# Altium integrated library Maxim Power and Battery Management.IntLib: 645 symbols (part 2 of 15)
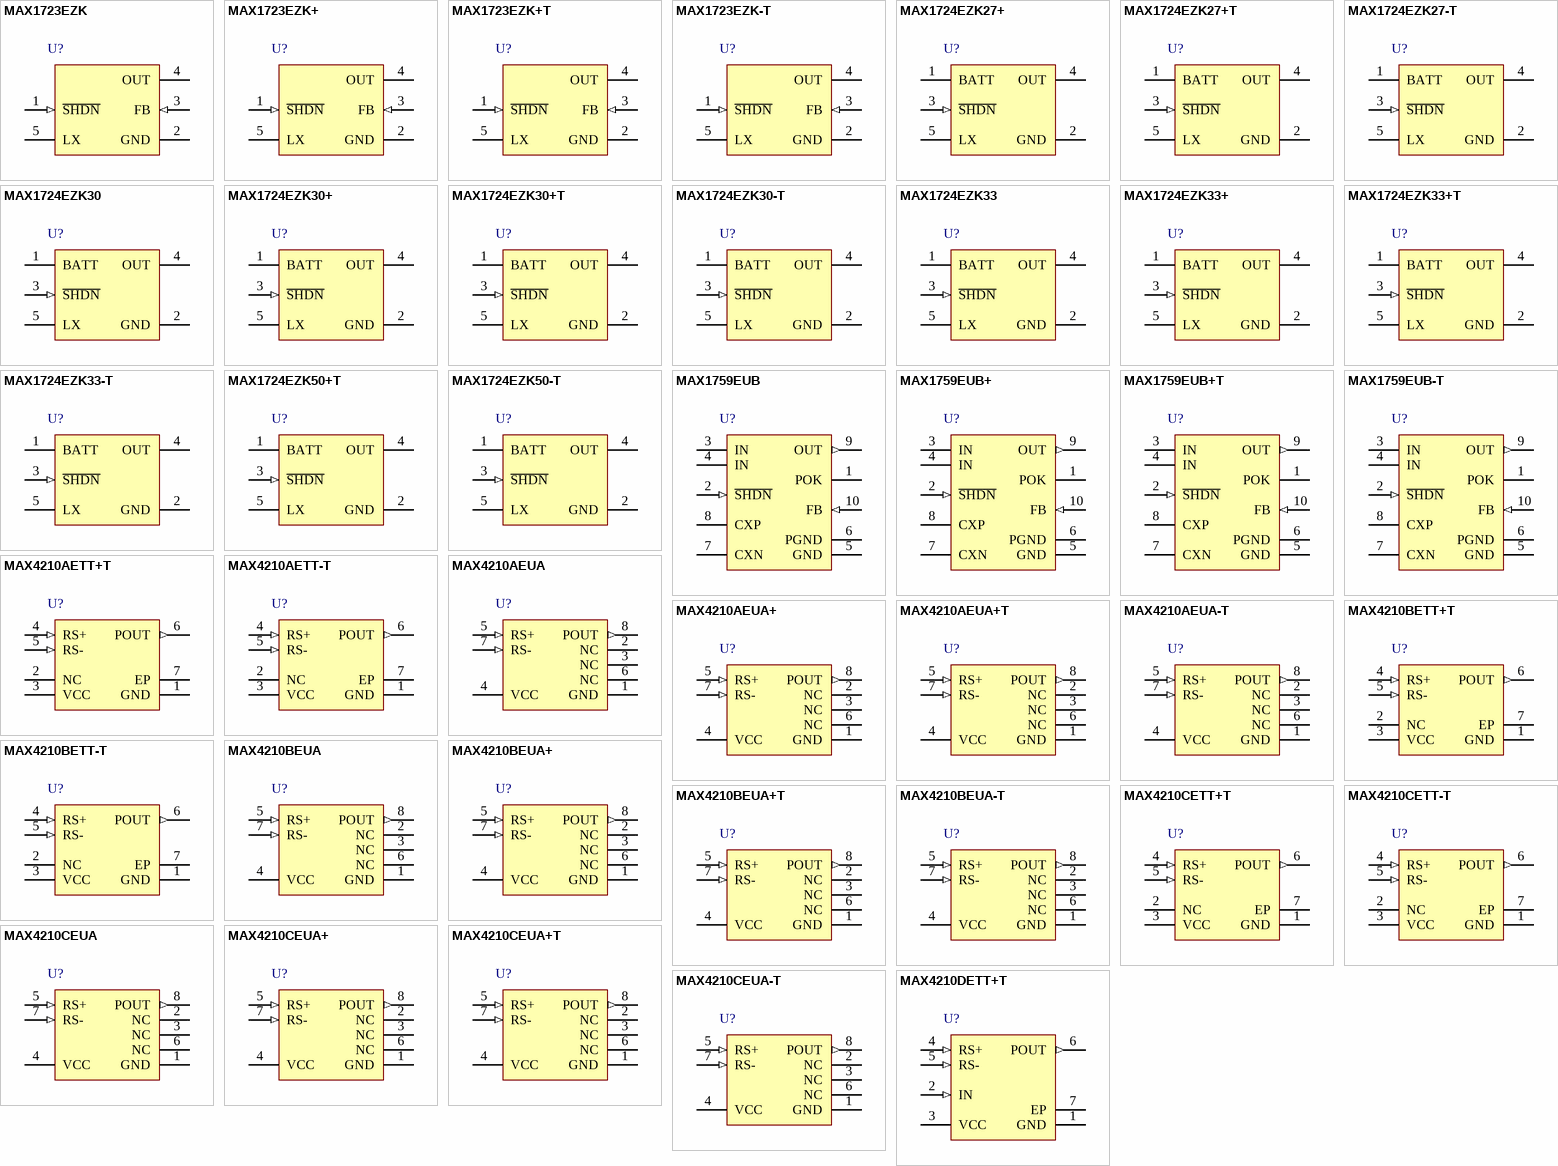
[diagram p20: symbols MAX1723EZK to MAX4210DETT+T]

## MAX1724EZK30+
designator U?
1.5uA IQ, Step-Up DC-DC Converter, 3V output, SHDN, LX damping, 5-Pin SOT, -40°C to +85°C, Pb-Free; DatasheetVersion: Rev 0, Jul-2001; PackageVersion: revD, 2010; PackageReference: Z5+1; PackageDescription: 5-Pin Thin Small-Outline Transistor, 2.9 x 1.6 mm Body, 0.95 mm Pitch, 2.8 mm Lead Span, SOT-23, Pb-Free; Code_JEITA: SC-74; Code_JEDEC: MO-193*; ComponentLink1Description: Manufacturer URL; ComponentLink1URL: http://www.maxim-ic.com; ComponentLink2Description: Datasheet; ComponentLink2URL: http://datasheets.maxim-ic.com/en/ds/MAX1722-MAX1724.pdf; ComponentLink3Description: Package Specification; ComponentLink3URL: http://pdfserv.maxim-ic.com/package_dwgs/21-0113.PDF
footprint Z5+1_N (SOT23, 5-Leads, Body 2.9x1.6mm, Pitch 0.95mm, Lead Span 2.8mm, IPC Medium Density)
footprint Z5+1_L (SOT23, 5-Leads, Body 2.9x1.6mm, Pitch 0.95mm, Lead Span 2.8mm, IPC High Density)
footprint Z5+1_M (SOT23, 5-Leads, Body 2.9x1.6mm, Pitch 0.95mm, Lead Span 2.8mm, IPC Low Density)
pins: 1 BATT (power), 2 GND (power), 3 ~{SHDN} (in), 4 OUT (power), 5 LX

## MAX1724EZK30+T
designator U?
1.5uA IQ, Step-Up DC-DC Converter, 3V output, SHDN, LX damping, 5-Pin SOT, -40°C to +85°C, Pb-Free, Tape and Reel; DatasheetVersion: Rev 0, Jul-2001; PackageVersion: revD, 2010; PackageReference: Z5+1; PackageDescription: 5-Pin Thin Small-Outline Transistor, 2.9 x 1.6 mm Body, 0.95 mm Pitch, 2.8 mm Lead Span, SOT-23, Pb-Free; Code_JEITA: SC-74; Code_JEDEC: MO-193*; ComponentLink1Description: Manufacturer URL; ComponentLink1URL: http://www.maxim-ic.com; ComponentLink2Description: Datasheet; ComponentLink2URL: http://datasheets.maxim-ic.com/en/ds/MAX1722-MAX1724.pdf; ComponentLink3Description: Package Specification; ComponentLink3URL: http://pdfserv.maxim-ic.com/package_dwgs/21-0113.PDF
footprint Z5+1_N (SOT23, 5-Leads, Body 2.9x1.6mm, Pitch 0.95mm, Lead Span 2.8mm, IPC Medium Density)
footprint Z5+1_L (SOT23, 5-Leads, Body 2.9x1.6mm, Pitch 0.95mm, Lead Span 2.8mm, IPC High Density)
footprint Z5+1_M (SOT23, 5-Leads, Body 2.9x1.6mm, Pitch 0.95mm, Lead Span 2.8mm, IPC Low Density)
pins: 1 BATT (power), 2 GND (power), 3 ~{SHDN} (in), 4 OUT (power), 5 LX

## MAX1724EZK30-T
designator U?
1.5uA IQ, Step-Up DC-DC Converter, 3V output, SHDN, LX damping, 5-Pin SOT, -40°C to +85°C, Tape and Reel; DatasheetVersion: Rev 0, Jul-2001; PackageVersion: revD, 2010; PackageReference: Z5-1; PackageDescription: 5-Pin Thin Small-Outline Transistor, 2.9 x 1.6 mm Body, 0.95 mm Pitch, 2.8 mm Lead Span, SOT-23; Code_JEITA: SC-74; Code_JEDEC: MO-193*; ComponentLink1Description: Manufacturer URL; ComponentLink1URL: http://www.maxim-ic.com; ComponentLink2Description: Datasheet; ComponentLink2URL: http://datasheets.maxim-ic.com/en/ds/MAX1722-MAX1724.pdf; ComponentLink3Description: Package Specification; ComponentLink3URL: http://pdfserv.maxim-ic.com/package_dwgs/21-0113.PDF
footprint Z5-1_N (SOT23, 5-Leads, Body 2.9x1.6mm, Pitch 0.95mm, Lead Span 2.8mm, IPC Medium Density)
footprint Z5-1_L (SOT23, 5-Leads, Body 2.9x1.6mm, Pitch 0.95mm, Lead Span 2.8mm, IPC High Density)
footprint Z5-1_M (SOT23, 5-Leads, Body 2.9x1.6mm, Pitch 0.95mm, Lead Span 2.8mm, IPC Low Density)
pins: 1 BATT (power), 2 GND (power), 3 ~{SHDN} (in), 4 OUT (power), 5 LX

## MAX1724EZK33
designator U?
1.5uA IQ, Step-Up DC-DC Converter, 3.3V output, SHDN, LX damping, 5-Pin SOT, -40°C to +85°C; DatasheetVersion: Rev 0, Jul-2001; PackageVersion: revD, 2010; PackageReference: Z5-1; PackageDescription: 5-Pin Thin Small-Outline Transistor, 2.9 x 1.6 mm Body, 0.95 mm Pitch, 2.8 mm Lead Span, SOT-23; Code_JEITA: SC-74; Code_JEDEC: MO-193*; ComponentLink1Description: Manufacturer URL; ComponentLink1URL: http://www.maxim-ic.com; ComponentLink2Description: Datasheet; ComponentLink2URL: http://datasheets.maxim-ic.com/en/ds/MAX1722-MAX1724.pdf; ComponentLink3Description: Package Specification; ComponentLink3URL: http://pdfserv.maxim-ic.com/package_dwgs/21-0113.PDF
footprint Z5-1_N (SOT23, 5-Leads, Body 2.9x1.6mm, Pitch 0.95mm, Lead Span 2.8mm, IPC Medium Density)
footprint Z5-1_L (SOT23, 5-Leads, Body 2.9x1.6mm, Pitch 0.95mm, Lead Span 2.8mm, IPC High Density)
footprint Z5-1_M (SOT23, 5-Leads, Body 2.9x1.6mm, Pitch 0.95mm, Lead Span 2.8mm, IPC Low Density)
pins: 1 BATT (power), 2 GND (power), 3 ~{SHDN} (in), 4 OUT (power), 5 LX

## MAX1724EZK33+
designator U?
1.5uA IQ, Step-Up DC-DC Converter, 3.3V output, SHDN, LX damping, 5-Pin SOT, -40°C to +85°C, Pb-Free; DatasheetVersion: Rev 0, Jul-2001; PackageVersion: revD, 2010; PackageReference: Z5+1; PackageDescription: 5-Pin Thin Small-Outline Transistor, 2.9 x 1.6 mm Body, 0.95 mm Pitch, 2.8 mm Lead Span, SOT-23, Pb-Free; Code_JEITA: SC-74; Code_JEDEC: MO-193*; ComponentLink1Description: Manufacturer URL; ComponentLink1URL: http://www.maxim-ic.com; ComponentLink2Description: Datasheet; ComponentLink2URL: http://datasheets.maxim-ic.com/en/ds/MAX1722-MAX1724.pdf; ComponentLink3Description: Package Specification; ComponentLink3URL: http://pdfserv.maxim-ic.com/package_dwgs/21-0113.PDF
footprint Z5+1_N (SOT23, 5-Leads, Body 2.9x1.6mm, Pitch 0.95mm, Lead Span 2.8mm, IPC Medium Density)
footprint Z5+1_L (SOT23, 5-Leads, Body 2.9x1.6mm, Pitch 0.95mm, Lead Span 2.8mm, IPC High Density)
footprint Z5+1_M (SOT23, 5-Leads, Body 2.9x1.6mm, Pitch 0.95mm, Lead Span 2.8mm, IPC Low Density)
pins: 1 BATT (power), 2 GND (power), 3 ~{SHDN} (in), 4 OUT (power), 5 LX

## MAX1724EZK33+T
designator U?
1.5uA IQ, Step-Up DC-DC Converter, 3.3V output, SHDN, LX damping, 5-Pin SOT, -40°C to +85°C, Pb-Free, Tape and Reel; DatasheetVersion: Rev 0, Jul-2001; PackageVersion: revD, 2010; PackageReference: Z5+1; PackageDescription: 5-Pin Thin Small-Outline Transistor, 2.9 x 1.6 mm Body, 0.95 mm Pitch, 2.8 mm Lead Span, SOT-23, Pb-Free; Code_JEITA: SC-74; Code_JEDEC: MO-193*; ComponentLink1Description: Manufacturer URL; ComponentLink1URL: http://www.maxim-ic.com; ComponentLink2Description: Datasheet; ComponentLink2URL: http://datasheets.maxim-ic.com/en/ds/MAX1722-MAX1724.pdf; ComponentLink3Description: Package Specification; ComponentLink3URL: http://pdfserv.maxim-ic.com/package_dwgs/21-0113.PDF
footprint Z5+1_N (SOT23, 5-Leads, Body 2.9x1.6mm, Pitch 0.95mm, Lead Span 2.8mm, IPC Medium Density)
footprint Z5+1_L (SOT23, 5-Leads, Body 2.9x1.6mm, Pitch 0.95mm, Lead Span 2.8mm, IPC High Density)
footprint Z5+1_M (SOT23, 5-Leads, Body 2.9x1.6mm, Pitch 0.95mm, Lead Span 2.8mm, IPC Low Density)
pins: 1 BATT (power), 2 GND (power), 3 ~{SHDN} (in), 4 OUT (power), 5 LX

## MAX1724EZK33-T
designator U?
1.5uA IQ, Step-Up DC-DC Converter, 3.3V output, SHDN, LX damping, 5-Pin SOT, -40°C to +85°C, Tape and Reel; DatasheetVersion: Rev 0, Jul-2001; PackageVersion: revD, 2010; PackageReference: Z5-1; PackageDescription: 5-Pin Thin Small-Outline Transistor, 2.9 x 1.6 mm Body, 0.95 mm Pitch, 2.8 mm Lead Span, SOT-23; Code_JEITA: SC-74; Code_JEDEC: MO-193*; ComponentLink1Description: Manufacturer URL; ComponentLink1URL: http://www.maxim-ic.com; ComponentLink2Description: Datasheet; ComponentLink2URL: http://datasheets.maxim-ic.com/en/ds/MAX1722-MAX1724.pdf; ComponentLink3Description: Package Specification; ComponentLink3URL: http://pdfserv.maxim-ic.com/package_dwgs/21-0113.PDF
footprint Z5-1_N (SOT23, 5-Leads, Body 2.9x1.6mm, Pitch 0.95mm, Lead Span 2.8mm, IPC Medium Density)
footprint Z5-1_L (SOT23, 5-Leads, Body 2.9x1.6mm, Pitch 0.95mm, Lead Span 2.8mm, IPC High Density)
footprint Z5-1_M (SOT23, 5-Leads, Body 2.9x1.6mm, Pitch 0.95mm, Lead Span 2.8mm, IPC Low Density)
pins: 1 BATT (power), 2 GND (power), 3 ~{SHDN} (in), 4 OUT (power), 5 LX

## MAX1724EZK50+T
designator U?
1.5uA IQ, Step-Up DC-DC Converter, 5V output, SHDN, LX damping, 5-Pin SOT, -40°C to +85°C, Pb-Free, Tape and Reel; DatasheetVersion: Rev 0, Jul-2001; PackageVersion: revD, 2010; PackageReference: Z5+1; PackageDescription: 5-Pin Thin Small-Outline Transistor, 2.9 x 1.6 mm Body, 0.95 mm Pitch, 2.8 mm Lead Span, SOT-23, Pb-Free; Code_JEITA: SC-74; Code_JEDEC: MO-193*; ComponentLink1Description: Manufacturer URL; ComponentLink1URL: http://www.maxim-ic.com; ComponentLink2Description: Datasheet; ComponentLink2URL: http://datasheets.maxim-ic.com/en/ds/MAX1722-MAX1724.pdf; ComponentLink3Description: Package Specification; ComponentLink3URL: http://pdfserv.maxim-ic.com/package_dwgs/21-0113.PDF
footprint Z5+1_N (SOT23, 5-Leads, Body 2.9x1.6mm, Pitch 0.95mm, Lead Span 2.8mm, IPC Medium Density)
footprint Z5+1_L (SOT23, 5-Leads, Body 2.9x1.6mm, Pitch 0.95mm, Lead Span 2.8mm, IPC High Density)
footprint Z5+1_M (SOT23, 5-Leads, Body 2.9x1.6mm, Pitch 0.95mm, Lead Span 2.8mm, IPC Low Density)
pins: 1 BATT (power), 2 GND (power), 3 ~{SHDN} (in), 4 OUT (power), 5 LX

## MAX1724EZK50-T
designator U?
1.5uA IQ, Step-Up DC-DC Converter, 5V output, SHDN, LX damping, 5-Pin SOT, -40°C to +85°C, Tape and Reel; DatasheetVersion: Rev 0, Jul-2001; PackageVersion: revD, 2010; PackageReference: Z5-1; PackageDescription: 5-Pin Thin Small-Outline Transistor, 2.9 x 1.6 mm Body, 0.95 mm Pitch, 2.8 mm Lead Span, SOT-23; Code_JEITA: SC-74; Code_JEDEC: MO-193*; ComponentLink1Description: Manufacturer URL; ComponentLink1URL: http://www.maxim-ic.com; ComponentLink2Description: Datasheet; ComponentLink2URL: http://datasheets.maxim-ic.com/en/ds/MAX1722-MAX1724.pdf; ComponentLink3Description: Package Specification; ComponentLink3URL: http://pdfserv.maxim-ic.com/package_dwgs/21-0113.PDF
footprint Z5-1_N (SOT23, 5-Leads, Body 2.9x1.6mm, Pitch 0.95mm, Lead Span 2.8mm, IPC Medium Density)
footprint Z5-1_L (SOT23, 5-Leads, Body 2.9x1.6mm, Pitch 0.95mm, Lead Span 2.8mm, IPC High Density)
footprint Z5-1_M (SOT23, 5-Leads, Body 2.9x1.6mm, Pitch 0.95mm, Lead Span 2.8mm, IPC Low Density)
pins: 1 BATT (power), 2 GND (power), 3 ~{SHDN} (in), 4 OUT (power), 5 LX

## MAX1759EUB
designator U?
Buck/Boost Regulating Charge Pump, open-drain POK, 10-Pin uMAX, -40°C to +85°C; DatasheetVersion: Rev 1, Jun-2000; PackageVersion: revL, 2008; PackageReference: U10-2; PackageDescription: 10-Pin Micro-MAX Thin Shrink Small Outline (uSOP), 3 x 3 x 0.85 mm Body, 0.5 mm Pitch; Code_JEDEC: MO-187-BA; ComponentLink1Description: Manufacturer URL; ComponentLink1URL: http://www.maxim-ic.com; ComponentLink2Description: Datasheet; ComponentLink2URL: http://datasheets.maxim-ic.com/en/ds/MAX1759.pdf; ComponentLink3Description: Package Specification; ComponentLink3URL: http://pdfserv.maxim-ic.com/package_dwgs/21-0061.PDF
footprint U10-2_N (TSSOP, 10-Leads, Body 3x3mm, Pitch 0.5mm, IPC Medium Density)
footprint U10-2_L (TSSOP, 10-Leads, Body 3x3mm, Pitch 0.5mm, IPC High Density)
footprint U10-2_M (TSSOP, 10-Leads, Body 3x3mm, Pitch 0.5mm, IPC Low Density)
pins: 1 POK (oc), 2 ~{SHDN} (in), 3 IN (power), 4 IN (power), 5 GND (power), 6 PGND (power), 7 CXN, 8 CXP, 9 OUT (out), 10 FB (in)

## MAX1759EUB+
designator U?
Buck/Boost Regulating Charge Pump, open-drain POK, 10-Pin uMAX, -40°C to +85°C, Pb-Free; DatasheetVersion: Rev 1, Jun-2000; PackageVersion: revL, 2008; PackageReference: U10+2; PackageDescription: 10-Pin Micro-MAX Thin Shrink Small Outline (uSOP), 3 x 3 x 0.85 mm Body, 0.5 mm Pitch, Pb-Free; Code_JEDEC: MO-187-BA; ComponentLink1Description: Manufacturer URL; ComponentLink1URL: http://www.maxim-ic.com; ComponentLink2Description: Datasheet; ComponentLink2URL: http://datasheets.maxim-ic.com/en/ds/MAX1759.pdf; ComponentLink3Description: Package Specification; ComponentLink3URL: http://pdfserv.maxim-ic.com/package_dwgs/21-0061.PDF
footprint U10+2_N (TSSOP, 10-Leads, Body 3x3mm, Pitch 0.5mm, IPC Medium Density)
footprint U10+2_L (TSSOP, 10-Leads, Body 3x3mm, Pitch 0.5mm, IPC High Density)
footprint U10+2_M (TSSOP, 10-Leads, Body 3x3mm, Pitch 0.5mm, IPC Low Density)
pins: 1 POK (oc), 2 ~{SHDN} (in), 3 IN (power), 4 IN (power), 5 GND (power), 6 PGND (power), 7 CXN, 8 CXP, 9 OUT (out), 10 FB (in)

## MAX1759EUB+T
designator U?
Buck/Boost Regulating Charge Pump, open-drain POK, 10-Pin uMAX, -40°C to +85°C, Pb-Free, Tape and Reel; DatasheetVersion: Rev 1, Jun-2000; PackageVersion: revL, 2008; PackageReference: U10+2; PackageDescription: 10-Pin Micro-MAX Thin Shrink Small Outline (uSOP), 3 x 3 x 0.85 mm Body, 0.5 mm Pitch, Pb-Free; Code_JEDEC: MO-187-BA; ComponentLink1Description: Manufacturer URL; ComponentLink1URL: http://www.maxim-ic.com; ComponentLink2Description: Datasheet; ComponentLink2URL: http://datasheets.maxim-ic.com/en/ds/MAX1759.pdf; ComponentLink3Description: Package Specification; ComponentLink3URL: http://pdfserv.maxim-ic.com/package_dwgs/21-0061.PDF
footprint U10+2_N (TSSOP, 10-Leads, Body 3x3mm, Pitch 0.5mm, IPC Medium Density)
footprint U10+2_L (TSSOP, 10-Leads, Body 3x3mm, Pitch 0.5mm, IPC High Density)
footprint U10+2_M (TSSOP, 10-Leads, Body 3x3mm, Pitch 0.5mm, IPC Low Density)
pins: 1 POK (oc), 2 ~{SHDN} (in), 3 IN (power), 4 IN (power), 5 GND (power), 6 PGND (power), 7 CXN, 8 CXP, 9 OUT (out), 10 FB (in)

## MAX1759EUB-T
designator U?
Buck/Boost Regulating Charge Pump, open-drain POK, 10-Pin uMAX, -40°C to +85°C, Tape and Reel; DatasheetVersion: Rev 1, Jun-2000; PackageVersion: revL, 2008; PackageReference: U10-2; PackageDescription: 10-Pin Micro-MAX Thin Shrink Small Outline (uSOP), 3 x 3 x 0.85 mm Body, 0.5 mm Pitch; Code_JEDEC: MO-187-BA; ComponentLink1Description: Manufacturer URL; ComponentLink1URL: http://www.maxim-ic.com; ComponentLink2Description: Datasheet; ComponentLink2URL: http://datasheets.maxim-ic.com/en/ds/MAX1759.pdf; ComponentLink3Description: Package Specification; ComponentLink3URL: http://pdfserv.maxim-ic.com/package_dwgs/21-0061.PDF
footprint U10-2_N (TSSOP, 10-Leads, Body 3x3mm, Pitch 0.5mm, IPC Medium Density)
footprint U10-2_L (TSSOP, 10-Leads, Body 3x3mm, Pitch 0.5mm, IPC High Density)
footprint U10-2_M (TSSOP, 10-Leads, Body 3x3mm, Pitch 0.5mm, IPC Low Density)
pins: 1 POK (oc), 2 ~{SHDN} (in), 3 IN (power), 4 IN (power), 5 GND (power), 6 PGND (power), 7 CXN, 8 CXP, 9 OUT (out), 10 FB (in)

## MAX4210AETT+T
designator U?
Power Monitor, Internal Resistor-Divider Network, 6-Pin TDFN-EP, -40°C to +85°C, Pb-Free, Tape and Reel; DatasheetVersion: Rev 1, May-2005; PackageVersion: revJ, 2009; PackageReference: T633+2; PackageDescription: 6-Pin Plastic Very Very Thin Dual Flatpack No Leads, Exposed Pad, 3 x 3 x 0.8 mm Body, TDFN-EP, Pb-Free; Code_JEDEC: MO-229-WEEA; ComponentLink1Description: Manufacturer URL; ComponentLink1URL: http://www.maxim-ic.com; ComponentLink2Description: Datasheet; ComponentLink2URL: http://datasheets.maxim-ic.com/en/ds/MAX4210-MAX4211.pdf; ComponentLink3Description: Package Specification; ComponentLink3URL: http://pdfserv.maxim-ic.com/package_dwgs/21-0137.PDF
footprint T633+2_V (SON, 6-Leads, Body 3x3mm, Pitch 0.95mm, Thermal Pad 2.35x1.6mm, Maxim Recommended)
pins: 1 GND (power), 2 NC, 3 VCC (power), 4 RS+ (in), 5 RS- (in), 6 POUT (out), 7 EP (power)

## MAX4210AETT-T
designator U?
Power Monitor, Internal Resistor-Divider Network, 6-Pin TDFN-EP, -40°C to +85°C, Tape and Reel; DatasheetVersion: Rev 1, May-2005; PackageVersion: revJ, 2009; PackageReference: T633-2; PackageDescription: 6-Pin Plastic Very Very Thin Dual Flatpack No Leads, Exposed Pad, 3 x 3 x 0.8 mm Body, TDFN-EP; Code_JEDEC: MO-229-WEEA; ComponentLink1Description: Manufacturer URL; ComponentLink1URL: http://www.maxim-ic.com; ComponentLink2Description: Datasheet; ComponentLink2URL: http://datasheets.maxim-ic.com/en/ds/MAX4210-MAX4211.pdf; ComponentLink3Description: Package Specification; ComponentLink3URL: http://pdfserv.maxim-ic.com/package_dwgs/21-0137.PDF
footprint T633-2_V (SON, 6-Leads, Body 3x3mm, Pitch 0.95mm, Thermal Pad 2.35x1.6mm, Maxim Recommended)
pins: 1 GND (power), 2 NC, 3 VCC (power), 4 RS+ (in), 5 RS- (in), 6 POUT (out), 7 EP (power)

## MAX4210AEUA
designator U?
Power Monitor, Internal Resistor-Divider Network, 8-Pin uMAX, -40°C to +85°C; DatasheetVersion: Rev 1, May-2005; PackageVersion: revL, 2009; PackageReference: U8-1; PackageDescription: 8-Pin Micro-MAX, Thin Shrink Small-Outline, 0.65 mm Pitch, uMAX, uSOP; Code_JEDEC: MO-187-AA; ComponentLink1Description: Manufacturer URL; ComponentLink1URL: http://www.maxim-ic.com; ComponentLink2Description: Datasheet; ComponentLink2URL: http://datasheets.maxim-ic.com/en/ds/MAX4210-MAX4211.pdf; ComponentLink3Description: Package Specification; ComponentLink3URL: http://pdfserv.maxim-ic.com/package_dwgs/21-0036.PDF
footprint U8-1_N (TSOP, 8-Leads, Body 3x3mm, Pitch 0.65mm, IPC Medium Density)
footprint U8-1_L (TSOP, 8-Leads, Body 3x3mm, Pitch 0.65mm, IPC High Density)
footprint U8-1_M (TSOP, 8-Leads, Body 3x3mm, Pitch 0.65mm, IPC Low Density)
pins: 1 GND (power), 2 NC, 3 NC, 4 VCC (power), 5 RS+ (in), 6 NC, 7 RS- (in), 8 POUT (out)

## MAX4210AEUA+
designator U?
Power Monitor, Internal Resistor-Divider Network, 8-Pin uMAX, -40°C to +85°C, Pb-Free; DatasheetVersion: Rev 1, May-2005; PackageVersion: revL, 2009; PackageReference: U8+1; PackageDescription: 8-Pin Micro-MAX, Thin Shrink Small-Outline, 0.65 mm Pitch, uMAX, uSOP, Pb-Free; Code_JEDEC: MO-187-AA; ComponentLink1Description: Manufacturer URL; ComponentLink1URL: http://www.maxim-ic.com; ComponentLink2Description: Datasheet; ComponentLink2URL: http://datasheets.maxim-ic.com/en/ds/MAX4210-MAX4211.pdf; ComponentLink3Description: Package Specification; ComponentLink3URL: http://pdfserv.maxim-ic.com/package_dwgs/21-0036.PDF
footprint U8+1_N (TSOP, 8-Leads, Body 3x3mm, Pitch 0.65mm, IPC Medium Density)
footprint U8+1_L (TSOP, 8-Leads, Body 3x3mm, Pitch 0.65mm, IPC High Density)
footprint U8+1_M (TSOP, 8-Leads, Body 3x3mm, Pitch 0.65mm, IPC Low Density)
pins: 1 GND (power), 2 NC, 3 NC, 4 VCC (power), 5 RS+ (in), 6 NC, 7 RS- (in), 8 POUT (out)

## MAX4210AEUA+T
designator U?
Power Monitor, Internal Resistor-Divider Network, 8-Pin uMAX, -40°C to +85°C, Pb-Free, Tape and Reel; DatasheetVersion: Rev 1, May-2005; PackageVersion: revL, 2009; PackageReference: U8+1; PackageDescription: 8-Pin Micro-MAX, Thin Shrink Small-Outline, 0.65 mm Pitch, uMAX, uSOP, Pb-Free; Code_JEDEC: MO-187-AA; ComponentLink1Description: Manufacturer URL; ComponentLink1URL: http://www.maxim-ic.com; ComponentLink2Description: Datasheet; ComponentLink2URL: http://datasheets.maxim-ic.com/en/ds/MAX4210-MAX4211.pdf; ComponentLink3Description: Package Specification; ComponentLink3URL: http://pdfserv.maxim-ic.com/package_dwgs/21-0036.PDF
footprint U8+1_N (TSOP, 8-Leads, Body 3x3mm, Pitch 0.65mm, IPC Medium Density)
footprint U8+1_L (TSOP, 8-Leads, Body 3x3mm, Pitch 0.65mm, IPC High Density)
footprint U8+1_M (TSOP, 8-Leads, Body 3x3mm, Pitch 0.65mm, IPC Low Density)
pins: 1 GND (power), 2 NC, 3 NC, 4 VCC (power), 5 RS+ (in), 6 NC, 7 RS- (in), 8 POUT (out)

## MAX4210AEUA-T
designator U?
Power Monitor, Internal Resistor-Divider Network, 8-Pin uMAX, -40°C to +85°C, Tape and Reel; DatasheetVersion: Rev 1, May-2005; PackageVersion: revL, 2009; PackageReference: U8-1; PackageDescription: 8-Pin Micro-MAX, Thin Shrink Small-Outline, 0.65 mm Pitch, uMAX, uSOP; Code_JEDEC: MO-187-AA; ComponentLink1Description: Manufacturer URL; ComponentLink1URL: http://www.maxim-ic.com; ComponentLink2Description: Datasheet; ComponentLink2URL: http://datasheets.maxim-ic.com/en/ds/MAX4210-MAX4211.pdf; ComponentLink3Description: Package Specification; ComponentLink3URL: http://pdfserv.maxim-ic.com/package_dwgs/21-0036.PDF
footprint U8-1_N (TSOP, 8-Leads, Body 3x3mm, Pitch 0.65mm, IPC Medium Density)
footprint U8-1_L (TSOP, 8-Leads, Body 3x3mm, Pitch 0.65mm, IPC High Density)
footprint U8-1_M (TSOP, 8-Leads, Body 3x3mm, Pitch 0.65mm, IPC Low Density)
pins: 1 GND (power), 2 NC, 3 NC, 4 VCC (power), 5 RS+ (in), 6 NC, 7 RS- (in), 8 POUT (out)

## MAX4210BETT+T
designator U?
Power Monitor, Internal Resistor-Divider Network, 6-Pin TDFN-EP, -40°C to +85°C, Pb-Free, Tape and Reel; DatasheetVersion: Rev 1, May-2005; PackageVersion: revJ, 2009; PackageReference: T633+2; PackageDescription: 6-Pin Plastic Very Very Thin Dual Flatpack No Leads, Exposed Pad, 3 x 3 x 0.8 mm Body, TDFN-EP, Pb-Free; Code_JEDEC: MO-229-WEEA; ComponentLink1Description: Manufacturer URL; ComponentLink1URL: http://www.maxim-ic.com; ComponentLink2Description: Datasheet; ComponentLink2URL: http://datasheets.maxim-ic.com/en/ds/MAX4210-MAX4211.pdf; ComponentLink3Description: Package Specification; ComponentLink3URL: http://pdfserv.maxim-ic.com/package_dwgs/21-0137.PDF
footprint T633+2_V (SON, 6-Leads, Body 3x3mm, Pitch 0.95mm, Thermal Pad 2.35x1.6mm, Maxim Recommended)
pins: 1 GND (power), 2 NC, 3 VCC (power), 4 RS+ (in), 5 RS- (in), 6 POUT (out), 7 EP (power)

## MAX4210BETT-T
designator U?
Power Monitor, Internal Resistor-Divider Network, 6-Pin TDFN-EP, -40°C to +85°C, Tape and Reel; DatasheetVersion: Rev 1, May-2005; PackageVersion: revJ, 2009; PackageReference: T633-2; PackageDescription: 6-Pin Plastic Very Very Thin Dual Flatpack No Leads, Exposed Pad, 3 x 3 x 0.8 mm Body, TDFN-EP; Code_JEDEC: MO-229-WEEA; ComponentLink1Description: Manufacturer URL; ComponentLink1URL: http://www.maxim-ic.com; ComponentLink2Description: Datasheet; ComponentLink2URL: http://datasheets.maxim-ic.com/en/ds/MAX4210-MAX4211.pdf; ComponentLink3Description: Package Specification; ComponentLink3URL: http://pdfserv.maxim-ic.com/package_dwgs/21-0137.PDF
footprint T633-2_V (SON, 6-Leads, Body 3x3mm, Pitch 0.95mm, Thermal Pad 2.35x1.6mm, Maxim Recommended)
pins: 1 GND (power), 2 NC, 3 VCC (power), 4 RS+ (in), 5 RS- (in), 6 POUT (out), 7 EP (power)

## MAX4210BEUA
designator U?
Power Monitor, Internal Resistor-Divider Network, 8-Pin uMAX, -40°C to +85°C; DatasheetVersion: Rev 1, May-2005; PackageVersion: revL, 2009; PackageReference: U8-1; PackageDescription: 8-Pin Micro-MAX, Thin Shrink Small-Outline, 0.65 mm Pitch, uMAX, uSOP; Code_JEDEC: MO-187-AA; ComponentLink1Description: Manufacturer URL; ComponentLink1URL: http://www.maxim-ic.com; ComponentLink2Description: Datasheet; ComponentLink2URL: http://datasheets.maxim-ic.com/en/ds/MAX4210-MAX4211.pdf; ComponentLink3Description: Package Specification; ComponentLink3URL: http://pdfserv.maxim-ic.com/package_dwgs/21-0036.PDF
footprint U8-1_N (TSOP, 8-Leads, Body 3x3mm, Pitch 0.65mm, IPC Medium Density)
footprint U8-1_L (TSOP, 8-Leads, Body 3x3mm, Pitch 0.65mm, IPC High Density)
footprint U8-1_M (TSOP, 8-Leads, Body 3x3mm, Pitch 0.65mm, IPC Low Density)
pins: 1 GND (power), 2 NC, 3 NC, 4 VCC (power), 5 RS+ (in), 6 NC, 7 RS- (in), 8 POUT (out)

## MAX4210BEUA+
designator U?
Power Monitor, Internal Resistor-Divider Network, 8-Pin uMAX, -40°C to +85°C, Pb-Free; DatasheetVersion: Rev 1, May-2005; PackageVersion: revL, 2009; PackageReference: U8+1; PackageDescription: 8-Pin Micro-MAX, Thin Shrink Small-Outline, 0.65 mm Pitch, uMAX, uSOP, Pb-Free; Code_JEDEC: MO-187-AA; ComponentLink1Description: Manufacturer URL; ComponentLink1URL: http://www.maxim-ic.com; ComponentLink2Description: Datasheet; ComponentLink2URL: http://datasheets.maxim-ic.com/en/ds/MAX4210-MAX4211.pdf; ComponentLink3Description: Package Specification; ComponentLink3URL: http://pdfserv.maxim-ic.com/package_dwgs/21-0036.PDF
footprint U8+1_N (TSOP, 8-Leads, Body 3x3mm, Pitch 0.65mm, IPC Medium Density)
footprint U8+1_L (TSOP, 8-Leads, Body 3x3mm, Pitch 0.65mm, IPC High Density)
footprint U8+1_M (TSOP, 8-Leads, Body 3x3mm, Pitch 0.65mm, IPC Low Density)
pins: 1 GND (power), 2 NC, 3 NC, 4 VCC (power), 5 RS+ (in), 6 NC, 7 RS- (in), 8 POUT (out)

## MAX4210BEUA+T
designator U?
Power Monitor, Internal Resistor-Divider Network, 8-Pin uMAX, -40°C to +85°C, Pb-Free, Tape and Reel; DatasheetVersion: Rev 1, May-2005; PackageVersion: revL, 2009; PackageReference: U8+1; PackageDescription: 8-Pin Micro-MAX, Thin Shrink Small-Outline, 0.65 mm Pitch, uMAX, uSOP, Pb-Free; Code_JEDEC: MO-187-AA; ComponentLink1Description: Manufacturer URL; ComponentLink1URL: http://www.maxim-ic.com; ComponentLink2Description: Datasheet; ComponentLink2URL: http://datasheets.maxim-ic.com/en/ds/MAX4210-MAX4211.pdf; ComponentLink3Description: Package Specification; ComponentLink3URL: http://pdfserv.maxim-ic.com/package_dwgs/21-0036.PDF
footprint U8+1_N (TSOP, 8-Leads, Body 3x3mm, Pitch 0.65mm, IPC Medium Density)
footprint U8+1_L (TSOP, 8-Leads, Body 3x3mm, Pitch 0.65mm, IPC High Density)
footprint U8+1_M (TSOP, 8-Leads, Body 3x3mm, Pitch 0.65mm, IPC Low Density)
pins: 1 GND (power), 2 NC, 3 NC, 4 VCC (power), 5 RS+ (in), 6 NC, 7 RS- (in), 8 POUT (out)

## MAX4210BEUA-T
designator U?
Power Monitor, Internal Resistor-Divider Network, 8-Pin uMAX, -40°C to +85°C, Tape and Reel; DatasheetVersion: Rev 1, May-2005; PackageVersion: revL, 2009; PackageReference: U8-1; PackageDescription: 8-Pin Micro-MAX, Thin Shrink Small-Outline, 0.65 mm Pitch, uMAX, uSOP; Code_JEDEC: MO-187-AA; ComponentLink1Description: Manufacturer URL; ComponentLink1URL: http://www.maxim-ic.com; ComponentLink2Description: Datasheet; ComponentLink2URL: http://datasheets.maxim-ic.com/en/ds/MAX4210-MAX4211.pdf; ComponentLink3Description: Package Specification; ComponentLink3URL: http://pdfserv.maxim-ic.com/package_dwgs/21-0036.PDF
footprint U8-1_N (TSOP, 8-Leads, Body 3x3mm, Pitch 0.65mm, IPC Medium Density)
footprint U8-1_L (TSOP, 8-Leads, Body 3x3mm, Pitch 0.65mm, IPC High Density)
footprint U8-1_M (TSOP, 8-Leads, Body 3x3mm, Pitch 0.65mm, IPC Low Density)
pins: 1 GND (power), 2 NC, 3 NC, 4 VCC (power), 5 RS+ (in), 6 NC, 7 RS- (in), 8 POUT (out)

## MAX4210CETT+T
designator U?
Power Monitor, Internal Resistor-Divider Network, 6-Pin TDFN-EP, -40°C to +85°C, Pb-Free, Tape and Reel; DatasheetVersion: Rev 1, May-2005; PackageVersion: revJ, 2009; PackageReference: T633+2; PackageDescription: 6-Pin Plastic Very Very Thin Dual Flatpack No Leads, Exposed Pad, 3 x 3 x 0.8 mm Body, TDFN-EP, Pb-Free; Code_JEDEC: MO-229-WEEA; ComponentLink1Description: Manufacturer URL; ComponentLink1URL: http://www.maxim-ic.com; ComponentLink2Description: Datasheet; ComponentLink2URL: http://datasheets.maxim-ic.com/en/ds/MAX4210-MAX4211.pdf; ComponentLink3Description: Package Specification; ComponentLink3URL: http://pdfserv.maxim-ic.com/package_dwgs/21-0137.PDF
footprint T633+2_V (SON, 6-Leads, Body 3x3mm, Pitch 0.95mm, Thermal Pad 2.35x1.6mm, Maxim Recommended)
pins: 1 GND (power), 2 NC, 3 VCC (power), 4 RS+ (in), 5 RS- (in), 6 POUT (out), 7 EP (power)

## MAX4210CETT-T
designator U?
Power Monitor, Internal Resistor-Divider Network, 6-Pin TDFN-EP, -40°C to +85°C, Tape and Reel; DatasheetVersion: Rev 1, May-2005; PackageVersion: revJ, 2009; PackageReference: T633-2; PackageDescription: 6-Pin Plastic Very Very Thin Dual Flatpack No Leads, Exposed Pad, 3 x 3 x 0.8 mm Body, TDFN-EP; Code_JEDEC: MO-229-WEEA; ComponentLink1Description: Manufacturer URL; ComponentLink1URL: http://www.maxim-ic.com; ComponentLink2Description: Datasheet; ComponentLink2URL: http://datasheets.maxim-ic.com/en/ds/MAX4210-MAX4211.pdf; ComponentLink3Description: Package Specification; ComponentLink3URL: http://pdfserv.maxim-ic.com/package_dwgs/21-0137.PDF
footprint T633-2_V (SON, 6-Leads, Body 3x3mm, Pitch 0.95mm, Thermal Pad 2.35x1.6mm, Maxim Recommended)
pins: 1 GND (power), 2 NC, 3 VCC (power), 4 RS+ (in), 5 RS- (in), 6 POUT (out), 7 EP (power)

## MAX4210CEUA
designator U?
Power Monitor, Internal Resistor-Divider Network, 8-Pin uMAX, -40°C to +85°C; DatasheetVersion: Rev 1, May-2005; PackageVersion: revL, 2009; PackageReference: U8-1; PackageDescription: 8-Pin Micro-MAX, Thin Shrink Small-Outline, 0.65 mm Pitch, uMAX, uSOP; Code_JEDEC: MO-187-AA; ComponentLink1Description: Manufacturer URL; ComponentLink1URL: http://www.maxim-ic.com; ComponentLink2Description: Datasheet; ComponentLink2URL: http://datasheets.maxim-ic.com/en/ds/MAX4210-MAX4211.pdf; ComponentLink3Description: Package Specification; ComponentLink3URL: http://pdfserv.maxim-ic.com/package_dwgs/21-0036.PDF
footprint U8-1_N (TSOP, 8-Leads, Body 3x3mm, Pitch 0.65mm, IPC Medium Density)
footprint U8-1_L (TSOP, 8-Leads, Body 3x3mm, Pitch 0.65mm, IPC High Density)
footprint U8-1_M (TSOP, 8-Leads, Body 3x3mm, Pitch 0.65mm, IPC Low Density)
pins: 1 GND (power), 2 NC, 3 NC, 4 VCC (power), 5 RS+ (in), 6 NC, 7 RS- (in), 8 POUT (out)

## MAX4210CEUA+
designator U?
Power Monitor, Internal Resistor-Divider Network, 8-Pin uMAX, -40°C to +85°C, Pb-Free; DatasheetVersion: Rev 1, May-2005; PackageVersion: revL, 2009; PackageReference: U8+1; PackageDescription: 8-Pin Micro-MAX, Thin Shrink Small-Outline, 0.65 mm Pitch, uMAX, uSOP, Pb-Free; Code_JEDEC: MO-187-AA; ComponentLink1Description: Manufacturer URL; ComponentLink1URL: http://www.maxim-ic.com; ComponentLink2Description: Datasheet; ComponentLink2URL: http://datasheets.maxim-ic.com/en/ds/MAX4210-MAX4211.pdf; ComponentLink3Description: Package Specification; ComponentLink3URL: http://pdfserv.maxim-ic.com/package_dwgs/21-0036.PDF
footprint U8+1_N (TSOP, 8-Leads, Body 3x3mm, Pitch 0.65mm, IPC Medium Density)
footprint U8+1_L (TSOP, 8-Leads, Body 3x3mm, Pitch 0.65mm, IPC High Density)
footprint U8+1_M (TSOP, 8-Leads, Body 3x3mm, Pitch 0.65mm, IPC Low Density)
pins: 1 GND (power), 2 NC, 3 NC, 4 VCC (power), 5 RS+ (in), 6 NC, 7 RS- (in), 8 POUT (out)

## MAX4210CEUA+T
designator U?
Power Monitor, Internal Resistor-Divider Network, 8-Pin uMAX, -40°C to +85°C, Pb-Free, Tape and Reel; DatasheetVersion: Rev 1, May-2005; PackageVersion: revL, 2009; PackageReference: U8+1; PackageDescription: 8-Pin Micro-MAX, Thin Shrink Small-Outline, 0.65 mm Pitch, uMAX, uSOP, Pb-Free; Code_JEDEC: MO-187-AA; ComponentLink1Description: Manufacturer URL; ComponentLink1URL: http://www.maxim-ic.com; ComponentLink2Description: Datasheet; ComponentLink2URL: http://datasheets.maxim-ic.com/en/ds/MAX4210-MAX4211.pdf; ComponentLink3Description: Package Specification; ComponentLink3URL: http://pdfserv.maxim-ic.com/package_dwgs/21-0036.PDF
footprint U8+1_N (TSOP, 8-Leads, Body 3x3mm, Pitch 0.65mm, IPC Medium Density)
footprint U8+1_L (TSOP, 8-Leads, Body 3x3mm, Pitch 0.65mm, IPC High Density)
footprint U8+1_M (TSOP, 8-Leads, Body 3x3mm, Pitch 0.65mm, IPC Low Density)
pins: 1 GND (power), 2 NC, 3 NC, 4 VCC (power), 5 RS+ (in), 6 NC, 7 RS- (in), 8 POUT (out)

## MAX4210CEUA-T
designator U?
Power Monitor, Internal Resistor-Divider Network, 8-Pin uMAX, -40°C to +85°C, Tape and Reel; DatasheetVersion: Rev 1, May-2005; PackageVersion: revL, 2009; PackageReference: U8-1; PackageDescription: 8-Pin Micro-MAX, Thin Shrink Small-Outline, 0.65 mm Pitch, uMAX, uSOP; Code_JEDEC: MO-187-AA; ComponentLink1Description: Manufacturer URL; ComponentLink1URL: http://www.maxim-ic.com; ComponentLink2Description: Datasheet; ComponentLink2URL: http://datasheets.maxim-ic.com/en/ds/MAX4210-MAX4211.pdf; ComponentLink3Description: Package Specification; ComponentLink3URL: http://pdfserv.maxim-ic.com/package_dwgs/21-0036.PDF
footprint U8-1_N (TSOP, 8-Leads, Body 3x3mm, Pitch 0.65mm, IPC Medium Density)
footprint U8-1_L (TSOP, 8-Leads, Body 3x3mm, Pitch 0.65mm, IPC High Density)
footprint U8-1_M (TSOP, 8-Leads, Body 3x3mm, Pitch 0.65mm, IPC Low Density)
pins: 1 GND (power), 2 NC, 3 NC, 4 VCC (power), 5 RS+ (in), 6 NC, 7 RS- (in), 8 POUT (out)

## MAX4210DETT+T
designator U?
Power Monitor, External Resistor-Divider Network, 6-Pin TDFN-EP, -40°C to +85°C, Pb-Free, Tape and Reel; DatasheetVersion: Rev 1, May-2005; PackageVersion: revJ, 2009; PackageReference: T633+2; PackageDescription: 6-Pin Plastic Very Very Thin Dual Flatpack No Leads, Exposed Pad, 3 x 3 x 0.8 mm Body, TDFN-EP, Pb-Free; Code_JEDEC: MO-229-WEEA; ComponentLink1Description: Manufacturer URL; ComponentLink1URL: http://www.maxim-ic.com; ComponentLink2Description: Datasheet; ComponentLink2URL: http://datasheets.maxim-ic.com/en/ds/MAX4210-MAX4211.pdf; ComponentLink3Description: Package Specification; ComponentLink3URL: http://pdfserv.maxim-ic.com/package_dwgs/21-0137.PDF
footprint T633+2_V (SON, 6-Leads, Body 3x3mm, Pitch 0.95mm, Thermal Pad 2.35x1.6mm, Maxim Recommended)
pins: 1 GND (power), 2 IN (in), 3 VCC (power), 4 RS+ (in), 5 RS- (in), 6 POUT (out), 7 EP (power)

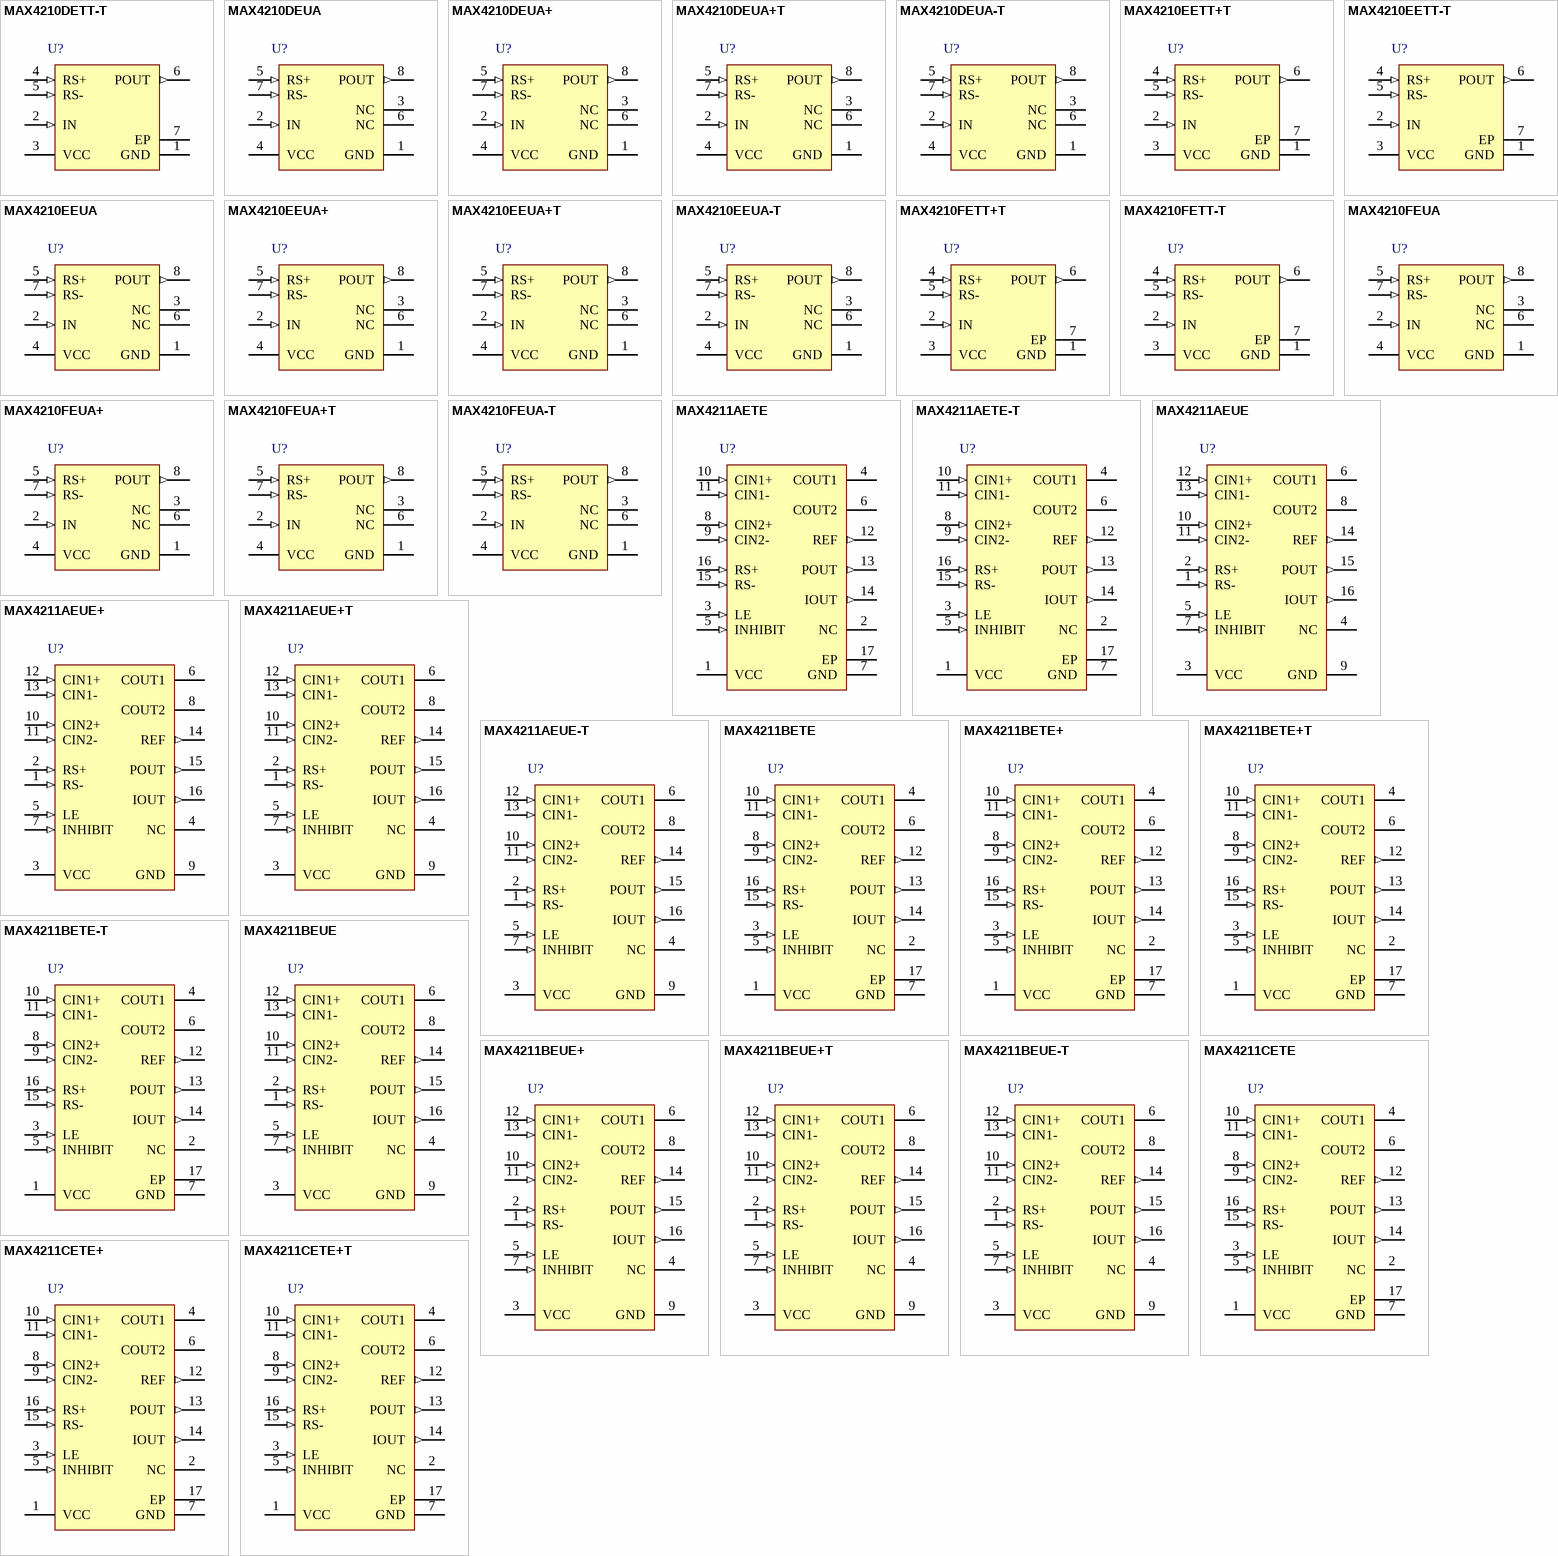
[diagram p2: symbols MAX4210DETT-T to MAX4211CETE+T]

## MAX4210DETT-T
designator U?
Power Monitor, External Resistor-Divider Network, 6-Pin TDFN-EP, -40°C to +85°C, Tape and Reel; DatasheetVersion: Rev 1, May-2005; PackageVersion: revJ, 2009; PackageReference: T633-2; PackageDescription: 6-Pin Plastic Very Very Thin Dual Flatpack No Leads, Exposed Pad, 3 x 3 x 0.8 mm Body, TDFN-EP; Code_JEDEC: MO-229-WEEA; ComponentLink1Description: Manufacturer URL; ComponentLink1URL: http://www.maxim-ic.com; ComponentLink2Description: Datasheet; ComponentLink2URL: http://datasheets.maxim-ic.com/en/ds/MAX4210-MAX4211.pdf; ComponentLink3Description: Package Specification; ComponentLink3URL: http://pdfserv.maxim-ic.com/package_dwgs/21-0137.PDF
footprint T633-2_V (SON, 6-Leads, Body 3x3mm, Pitch 0.95mm, Thermal Pad 2.35x1.6mm, Maxim Recommended)
pins: 1 GND (power), 2 IN (in), 3 VCC (power), 4 RS+ (in), 5 RS- (in), 6 POUT (out), 7 EP (power)

## MAX4210DEUA
designator U?
Power Monitor, External Resistor-Divider Network, 8-Pin uMAX, -40°C to +85°C; DatasheetVersion: Rev 1, May-2005; PackageVersion: revL, 2009; PackageReference: U8-1; PackageDescription: 8-Pin Micro-MAX, Thin Shrink Small-Outline, 0.65 mm Pitch, uMAX, uSOP; Code_JEDEC: MO-187-AA; ComponentLink1Description: Manufacturer URL; ComponentLink1URL: http://www.maxim-ic.com; ComponentLink2Description: Datasheet; ComponentLink2URL: http://datasheets.maxim-ic.com/en/ds/MAX4210-MAX4211.pdf; ComponentLink3Description: Package Specification; ComponentLink3URL: http://pdfserv.maxim-ic.com/package_dwgs/21-0036.PDF
footprint U8-1_N (TSOP, 8-Leads, Body 3x3mm, Pitch 0.65mm, IPC Medium Density)
footprint U8-1_L (TSOP, 8-Leads, Body 3x3mm, Pitch 0.65mm, IPC High Density)
footprint U8-1_M (TSOP, 8-Leads, Body 3x3mm, Pitch 0.65mm, IPC Low Density)
pins: 1 GND (power), 2 IN (in), 3 NC, 4 VCC (power), 5 RS+ (in), 6 NC, 7 RS- (in), 8 POUT (out)

## MAX4210DEUA+
designator U?
Power Monitor, External Resistor-Divider Network, 8-Pin uMAX, -40°C to +85°C, Pb-Free; DatasheetVersion: Rev 1, May-2005; PackageVersion: revL, 2009; PackageReference: U8+1; PackageDescription: 8-Pin Micro-MAX, Thin Shrink Small-Outline, 0.65 mm Pitch, uMAX, uSOP, Pb-Free; Code_JEDEC: MO-187-AA; ComponentLink1Description: Manufacturer URL; ComponentLink1URL: http://www.maxim-ic.com; ComponentLink2Description: Datasheet; ComponentLink2URL: http://datasheets.maxim-ic.com/en/ds/MAX4210-MAX4211.pdf; ComponentLink3Description: Package Specification; ComponentLink3URL: http://pdfserv.maxim-ic.com/package_dwgs/21-0036.PDF
footprint U8+1_N (TSOP, 8-Leads, Body 3x3mm, Pitch 0.65mm, IPC Medium Density)
footprint U8+1_L (TSOP, 8-Leads, Body 3x3mm, Pitch 0.65mm, IPC High Density)
footprint U8+1_M (TSOP, 8-Leads, Body 3x3mm, Pitch 0.65mm, IPC Low Density)
pins: 1 GND (power), 2 IN (in), 3 NC, 4 VCC (power), 5 RS+ (in), 6 NC, 7 RS- (in), 8 POUT (out)

## MAX4210DEUA+T
designator U?
Power Monitor, External Resistor-Divider Network, 8-Pin uMAX, -40°C to +85°C, Pb-Free, Tape and Reel; DatasheetVersion: Rev 1, May-2005; PackageVersion: revL, 2009; PackageReference: U8+1; PackageDescription: 8-Pin Micro-MAX, Thin Shrink Small-Outline, 0.65 mm Pitch, uMAX, uSOP, Pb-Free; Code_JEDEC: MO-187-AA; ComponentLink1Description: Manufacturer URL; ComponentLink1URL: http://www.maxim-ic.com; ComponentLink2Description: Datasheet; ComponentLink2URL: http://datasheets.maxim-ic.com/en/ds/MAX4210-MAX4211.pdf; ComponentLink3Description: Package Specification; ComponentLink3URL: http://pdfserv.maxim-ic.com/package_dwgs/21-0036.PDF
footprint U8+1_N (TSOP, 8-Leads, Body 3x3mm, Pitch 0.65mm, IPC Medium Density)
footprint U8+1_L (TSOP, 8-Leads, Body 3x3mm, Pitch 0.65mm, IPC High Density)
footprint U8+1_M (TSOP, 8-Leads, Body 3x3mm, Pitch 0.65mm, IPC Low Density)
pins: 1 GND (power), 2 IN (in), 3 NC, 4 VCC (power), 5 RS+ (in), 6 NC, 7 RS- (in), 8 POUT (out)

## MAX4210DEUA-T
designator U?
Power Monitor, External Resistor-Divider Network, 8-Pin uMAX, -40°C to +85°C, Tape and Reel; DatasheetVersion: Rev 1, May-2005; PackageVersion: revL, 2009; PackageReference: U8-1; PackageDescription: 8-Pin Micro-MAX, Thin Shrink Small-Outline, 0.65 mm Pitch, uMAX, uSOP; Code_JEDEC: MO-187-AA; ComponentLink1Description: Manufacturer URL; ComponentLink1URL: http://www.maxim-ic.com; ComponentLink2Description: Datasheet; ComponentLink2URL: http://datasheets.maxim-ic.com/en/ds/MAX4210-MAX4211.pdf; ComponentLink3Description: Package Specification; ComponentLink3URL: http://pdfserv.maxim-ic.com/package_dwgs/21-0036.PDF
footprint U8-1_N (TSOP, 8-Leads, Body 3x3mm, Pitch 0.65mm, IPC Medium Density)
footprint U8-1_L (TSOP, 8-Leads, Body 3x3mm, Pitch 0.65mm, IPC High Density)
footprint U8-1_M (TSOP, 8-Leads, Body 3x3mm, Pitch 0.65mm, IPC Low Density)
pins: 1 GND (power), 2 IN (in), 3 NC, 4 VCC (power), 5 RS+ (in), 6 NC, 7 RS- (in), 8 POUT (out)

## MAX4210EETT+T
designator U?
Power Monitor, External Resistor-Divider Network, 6-Pin TDFN-EP, -40°C to +85°C, Pb-Free, Tape and Reel; DatasheetVersion: Rev 1, May-2005; PackageVersion: revJ, 2009; PackageReference: T633+2; PackageDescription: 6-Pin Plastic Very Very Thin Dual Flatpack No Leads, Exposed Pad, 3 x 3 x 0.8 mm Body, TDFN-EP, Pb-Free; Code_JEDEC: MO-229-WEEA; ComponentLink1Description: Manufacturer URL; ComponentLink1URL: http://www.maxim-ic.com; ComponentLink2Description: Datasheet; ComponentLink2URL: http://datasheets.maxim-ic.com/en/ds/MAX4210-MAX4211.pdf; ComponentLink3Description: Package Specification; ComponentLink3URL: http://pdfserv.maxim-ic.com/package_dwgs/21-0137.PDF
footprint T633+2_V (SON, 6-Leads, Body 3x3mm, Pitch 0.95mm, Thermal Pad 2.35x1.6mm, Maxim Recommended)
pins: 1 GND (power), 2 IN (in), 3 VCC (power), 4 RS+ (in), 5 RS- (in), 6 POUT (out), 7 EP (power)

## MAX4210EETT-T
designator U?
Power Monitor, External Resistor-Divider Network, 6-Pin TDFN-EP, -40°C to +85°C, Tape and Reel; DatasheetVersion: Rev 1, May-2005; PackageVersion: revJ, 2009; PackageReference: T633-2; PackageDescription: 6-Pin Plastic Very Very Thin Dual Flatpack No Leads, Exposed Pad, 3 x 3 x 0.8 mm Body, TDFN-EP; Code_JEDEC: MO-229-WEEA; ComponentLink1Description: Manufacturer URL; ComponentLink1URL: http://www.maxim-ic.com; ComponentLink2Description: Datasheet; ComponentLink2URL: http://datasheets.maxim-ic.com/en/ds/MAX4210-MAX4211.pdf; ComponentLink3Description: Package Specification; ComponentLink3URL: http://pdfserv.maxim-ic.com/package_dwgs/21-0137.PDF
footprint T633-2_V (SON, 6-Leads, Body 3x3mm, Pitch 0.95mm, Thermal Pad 2.35x1.6mm, Maxim Recommended)
pins: 1 GND (power), 2 IN (in), 3 VCC (power), 4 RS+ (in), 5 RS- (in), 6 POUT (out), 7 EP (power)

## MAX4210EEUA
designator U?
Power Monitor, External Resistor-Divider Network, 8-Pin uMAX, -40°C to +85°C; DatasheetVersion: Rev 1, May-2005; PackageVersion: revL, 2009; PackageReference: U8-1; PackageDescription: 8-Pin Micro-MAX, Thin Shrink Small-Outline, 0.65 mm Pitch, uMAX, uSOP; Code_JEDEC: MO-187-AA; ComponentLink1Description: Manufacturer URL; ComponentLink1URL: http://www.maxim-ic.com; ComponentLink2Description: Datasheet; ComponentLink2URL: http://datasheets.maxim-ic.com/en/ds/MAX4210-MAX4211.pdf; ComponentLink3Description: Package Specification; ComponentLink3URL: http://pdfserv.maxim-ic.com/package_dwgs/21-0036.PDF
footprint U8-1_N (TSOP, 8-Leads, Body 3x3mm, Pitch 0.65mm, IPC Medium Density)
footprint U8-1_L (TSOP, 8-Leads, Body 3x3mm, Pitch 0.65mm, IPC High Density)
footprint U8-1_M (TSOP, 8-Leads, Body 3x3mm, Pitch 0.65mm, IPC Low Density)
pins: 1 GND (power), 2 IN (in), 3 NC, 4 VCC (power), 5 RS+ (in), 6 NC, 7 RS- (in), 8 POUT (out)

## MAX4210EEUA+
designator U?
Power Monitor, External Resistor-Divider Network, 8-Pin uMAX, -40°C to +85°C, Pb-Free; DatasheetVersion: Rev 1, May-2005; PackageVersion: revL, 2009; PackageReference: U8+1; PackageDescription: 8-Pin Micro-MAX, Thin Shrink Small-Outline, 0.65 mm Pitch, uMAX, uSOP, Pb-Free; Code_JEDEC: MO-187-AA; ComponentLink1Description: Manufacturer URL; ComponentLink1URL: http://www.maxim-ic.com; ComponentLink2Description: Datasheet; ComponentLink2URL: http://datasheets.maxim-ic.com/en/ds/MAX4210-MAX4211.pdf; ComponentLink3Description: Package Specification; ComponentLink3URL: http://pdfserv.maxim-ic.com/package_dwgs/21-0036.PDF
footprint U8+1_N (TSOP, 8-Leads, Body 3x3mm, Pitch 0.65mm, IPC Medium Density)
footprint U8+1_L (TSOP, 8-Leads, Body 3x3mm, Pitch 0.65mm, IPC High Density)
footprint U8+1_M (TSOP, 8-Leads, Body 3x3mm, Pitch 0.65mm, IPC Low Density)
pins: 1 GND (power), 2 IN (in), 3 NC, 4 VCC (power), 5 RS+ (in), 6 NC, 7 RS- (in), 8 POUT (out)

## MAX4210EEUA+T
designator U?
Power Monitor, External Resistor-Divider Network, 8-Pin uMAX, -40°C to +85°C, Pb-Free, Tape and Reel; DatasheetVersion: Rev 1, May-2005; PackageVersion: revL, 2009; PackageReference: U8+1; PackageDescription: 8-Pin Micro-MAX, Thin Shrink Small-Outline, 0.65 mm Pitch, uMAX, uSOP, Pb-Free; Code_JEDEC: MO-187-AA; ComponentLink1Description: Manufacturer URL; ComponentLink1URL: http://www.maxim-ic.com; ComponentLink2Description: Datasheet; ComponentLink2URL: http://datasheets.maxim-ic.com/en/ds/MAX4210-MAX4211.pdf; ComponentLink3Description: Package Specification; ComponentLink3URL: http://pdfserv.maxim-ic.com/package_dwgs/21-0036.PDF
footprint U8+1_N (TSOP, 8-Leads, Body 3x3mm, Pitch 0.65mm, IPC Medium Density)
footprint U8+1_L (TSOP, 8-Leads, Body 3x3mm, Pitch 0.65mm, IPC High Density)
footprint U8+1_M (TSOP, 8-Leads, Body 3x3mm, Pitch 0.65mm, IPC Low Density)
pins: 1 GND (power), 2 IN (in), 3 NC, 4 VCC (power), 5 RS+ (in), 6 NC, 7 RS- (in), 8 POUT (out)

## MAX4210EEUA-T
designator U?
Power Monitor, External Resistor-Divider Network, 8-Pin uMAX, -40°C to +85°C, Tape and Reel; DatasheetVersion: Rev 1, May-2005; PackageVersion: revL, 2009; PackageReference: U8-1; PackageDescription: 8-Pin Micro-MAX, Thin Shrink Small-Outline, 0.65 mm Pitch, uMAX, uSOP; Code_JEDEC: MO-187-AA; ComponentLink1Description: Manufacturer URL; ComponentLink1URL: http://www.maxim-ic.com; ComponentLink2Description: Datasheet; ComponentLink2URL: http://datasheets.maxim-ic.com/en/ds/MAX4210-MAX4211.pdf; ComponentLink3Description: Package Specification; ComponentLink3URL: http://pdfserv.maxim-ic.com/package_dwgs/21-0036.PDF
footprint U8-1_N (TSOP, 8-Leads, Body 3x3mm, Pitch 0.65mm, IPC Medium Density)
footprint U8-1_L (TSOP, 8-Leads, Body 3x3mm, Pitch 0.65mm, IPC High Density)
footprint U8-1_M (TSOP, 8-Leads, Body 3x3mm, Pitch 0.65mm, IPC Low Density)
pins: 1 GND (power), 2 IN (in), 3 NC, 4 VCC (power), 5 RS+ (in), 6 NC, 7 RS- (in), 8 POUT (out)

## MAX4210FETT+T
designator U?
Power Monitor, External Resistor-Divider Network, 6-Pin TDFN-EP, -40°C to +85°C, Pb-Free, Tape and Reel; DatasheetVersion: Rev 1, May-2005; PackageVersion: revJ, 2009; PackageReference: T633+2; PackageDescription: 6-Pin Plastic Very Very Thin Dual Flatpack No Leads, Exposed Pad, 3 x 3 x 0.8 mm Body, TDFN-EP, Pb-Free; Code_JEDEC: MO-229-WEEA; ComponentLink1Description: Manufacturer URL; ComponentLink1URL: http://www.maxim-ic.com; ComponentLink2Description: Datasheet; ComponentLink2URL: http://datasheets.maxim-ic.com/en/ds/MAX4210-MAX4211.pdf; ComponentLink3Description: Package Specification; ComponentLink3URL: http://pdfserv.maxim-ic.com/package_dwgs/21-0137.PDF
footprint T633+2_V (SON, 6-Leads, Body 3x3mm, Pitch 0.95mm, Thermal Pad 2.35x1.6mm, Maxim Recommended)
pins: 1 GND (power), 2 IN (in), 3 VCC (power), 4 RS+ (in), 5 RS- (in), 6 POUT (out), 7 EP (power)

## MAX4210FETT-T
designator U?
Power Monitor, External Resistor-Divider Network, 6-Pin TDFN-EP, -40°C to +85°C, Tape and Reel; DatasheetVersion: Rev 1, May-2005; PackageVersion: revJ, 2009; PackageReference: T633-2; PackageDescription: 6-Pin Plastic Very Very Thin Dual Flatpack No Leads, Exposed Pad, 3 x 3 x 0.8 mm Body, TDFN-EP; Code_JEDEC: MO-229-WEEA; ComponentLink1Description: Manufacturer URL; ComponentLink1URL: http://www.maxim-ic.com; ComponentLink2Description: Datasheet; ComponentLink2URL: http://datasheets.maxim-ic.com/en/ds/MAX4210-MAX4211.pdf; ComponentLink3Description: Package Specification; ComponentLink3URL: http://pdfserv.maxim-ic.com/package_dwgs/21-0137.PDF
footprint T633-2_V (SON, 6-Leads, Body 3x3mm, Pitch 0.95mm, Thermal Pad 2.35x1.6mm, Maxim Recommended)
pins: 1 GND (power), 2 IN (in), 3 VCC (power), 4 RS+ (in), 5 RS- (in), 6 POUT (out), 7 EP (power)

## MAX4210FEUA
designator U?
Power Monitor, External Resistor-Divider Network, 8-Pin uMAX, -40°C to +85°C; DatasheetVersion: Rev 1, May-2005; PackageVersion: revL, 2009; PackageReference: U8-1; PackageDescription: 8-Pin Micro-MAX, Thin Shrink Small-Outline, 0.65 mm Pitch, uMAX, uSOP; Code_JEDEC: MO-187-AA; ComponentLink1Description: Manufacturer URL; ComponentLink1URL: http://www.maxim-ic.com; ComponentLink2Description: Datasheet; ComponentLink2URL: http://datasheets.maxim-ic.com/en/ds/MAX4210-MAX4211.pdf; ComponentLink3Description: Package Specification; ComponentLink3URL: http://pdfserv.maxim-ic.com/package_dwgs/21-0036.PDF
footprint U8-1_N (TSOP, 8-Leads, Body 3x3mm, Pitch 0.65mm, IPC Medium Density)
footprint U8-1_L (TSOP, 8-Leads, Body 3x3mm, Pitch 0.65mm, IPC High Density)
footprint U8-1_M (TSOP, 8-Leads, Body 3x3mm, Pitch 0.65mm, IPC Low Density)
pins: 1 GND (power), 2 IN (in), 3 NC, 4 VCC (power), 5 RS+ (in), 6 NC, 7 RS- (in), 8 POUT (out)

## MAX4210FEUA+
designator U?
Power Monitor, External Resistor-Divider Network, 8-Pin uMAX, -40°C to +85°C, Pb-Free; DatasheetVersion: Rev 1, May-2005; PackageVersion: revL, 2009; PackageReference: U8+1; PackageDescription: 8-Pin Micro-MAX, Thin Shrink Small-Outline, 0.65 mm Pitch, uMAX, uSOP, Pb-Free; Code_JEDEC: MO-187-AA; ComponentLink1Description: Manufacturer URL; ComponentLink1URL: http://www.maxim-ic.com; ComponentLink2Description: Datasheet; ComponentLink2URL: http://datasheets.maxim-ic.com/en/ds/MAX4210-MAX4211.pdf; ComponentLink3Description: Package Specification; ComponentLink3URL: http://pdfserv.maxim-ic.com/package_dwgs/21-0036.PDF
footprint U8+1_N (TSOP, 8-Leads, Body 3x3mm, Pitch 0.65mm, IPC Medium Density)
footprint U8+1_L (TSOP, 8-Leads, Body 3x3mm, Pitch 0.65mm, IPC High Density)
footprint U8+1_M (TSOP, 8-Leads, Body 3x3mm, Pitch 0.65mm, IPC Low Density)
pins: 1 GND (power), 2 IN (in), 3 NC, 4 VCC (power), 5 RS+ (in), 6 NC, 7 RS- (in), 8 POUT (out)

## MAX4210FEUA+T
designator U?
Power Monitor, External Resistor-Divider Network, 8-Pin uMAX, -40°C to +85°C, Pb-Free, Tape and Reel; DatasheetVersion: Rev 1, May-2005; PackageVersion: revL, 2009; PackageReference: U8+1; PackageDescription: 8-Pin Micro-MAX, Thin Shrink Small-Outline, 0.65 mm Pitch, uMAX, uSOP, Pb-Free; Code_JEDEC: MO-187-AA; ComponentLink1Description: Manufacturer URL; ComponentLink1URL: http://www.maxim-ic.com; ComponentLink2Description: Datasheet; ComponentLink2URL: http://datasheets.maxim-ic.com/en/ds/MAX4210-MAX4211.pdf; ComponentLink3Description: Package Specification; ComponentLink3URL: http://pdfserv.maxim-ic.com/package_dwgs/21-0036.PDF
footprint U8+1_N (TSOP, 8-Leads, Body 3x3mm, Pitch 0.65mm, IPC Medium Density)
footprint U8+1_L (TSOP, 8-Leads, Body 3x3mm, Pitch 0.65mm, IPC High Density)
footprint U8+1_M (TSOP, 8-Leads, Body 3x3mm, Pitch 0.65mm, IPC Low Density)
pins: 1 GND (power), 2 IN (in), 3 NC, 4 VCC (power), 5 RS+ (in), 6 NC, 7 RS- (in), 8 POUT (out)

## MAX4210FEUA-T
designator U?
Power Monitor, External Resistor-Divider Network, 8-Pin uMAX, -40°C to +85°C, Tape and Reel; DatasheetVersion: Rev 1, May-2005; PackageVersion: revL, 2009; PackageReference: U8-1; PackageDescription: 8-Pin Micro-MAX, Thin Shrink Small-Outline, 0.65 mm Pitch, uMAX, uSOP; Code_JEDEC: MO-187-AA; ComponentLink1Description: Manufacturer URL; ComponentLink1URL: http://www.maxim-ic.com; ComponentLink2Description: Datasheet; ComponentLink2URL: http://datasheets.maxim-ic.com/en/ds/MAX4210-MAX4211.pdf; ComponentLink3Description: Package Specification; ComponentLink3URL: http://pdfserv.maxim-ic.com/package_dwgs/21-0036.PDF
footprint U8-1_N (TSOP, 8-Leads, Body 3x3mm, Pitch 0.65mm, IPC Medium Density)
footprint U8-1_L (TSOP, 8-Leads, Body 3x3mm, Pitch 0.65mm, IPC High Density)
footprint U8-1_M (TSOP, 8-Leads, Body 3x3mm, Pitch 0.65mm, IPC Low Density)
pins: 1 GND (power), 2 IN (in), 3 NC, 4 VCC (power), 5 RS+ (in), 6 NC, 7 RS- (in), 8 POUT (out)

## MAX4211AETE
designator U?
High-Side Power Monitor, Open-Drain Outputs, 16-Pin TQFN, -40°C to +85°C; DatasheetVersion: Rev 1, May-2005; PackageVersion: revJ, 2011; PackageReference: T1644-4; PackageDescription: 16-Pin Thin Quad Flatpack, No-Leads (TQFN), 4 x 4 x 0.75 mm Body, 0.65 mm Pitch, Exposed Pad; Code_JEDEC: MO-220WGGC; ComponentLink1Description: Manufacturer URL; ComponentLink1URL: http://www.maxim-ic.com; ComponentLink2Description: Datasheet; ComponentLink2URL: http://datasheets.maxim-ic.com/en/ds/MAX4210-MAX4211.pdf; ComponentLink3Description: Package Specification; ComponentLink3URL: http://pdfserv.maxim-ic.com/package_dwgs/21-0139.PDF
footprint T1644-4_N (QFN, 16-Leads, Body 4x4mm, Pitch 0.65mm, Thermal Pad 2.3x2.3mm, IPC Medium Density)
footprint T1644-4_L (QFN, 16-Leads, Body 4x4mm, Pitch 0.65mm, Thermal Pad 2.3x2.3mm, IPC High Density)
footprint T1644-4_M (QFN, 16-Leads, Body 4x4mm, Pitch 0.65mm, Thermal Pad 2.3x2.3mm, IPC Low Density)
pins: 1 VCC (power), 2 NC, 3 LE (in), 4 COUT1 (oc), 5 INHIBIT (in), 6 COUT2 (oc), 7 GND (power), 8 CIN2+ (in), 9 CIN2- (in), 10 CIN1+ (in), 11 CIN1- (in), 12 REF (out), 13 POUT (out), 14 IOUT (out), 15 RS- (in), 16 RS+ (in), 17 EP (power)